# Altium footprint library pcb_library.PcbLib: 24 footprints (part 2 of 2)
Each footprint in its own frame and in the unit in brackets; x right, y up, seen from the top. Pads: shape width x height; smd on the part's side, far side on the other; paste and mask are expansions set on the pad; w line width, h text height; cw(c..) or ccw(c..) is an arc to the next point about the centre after c.
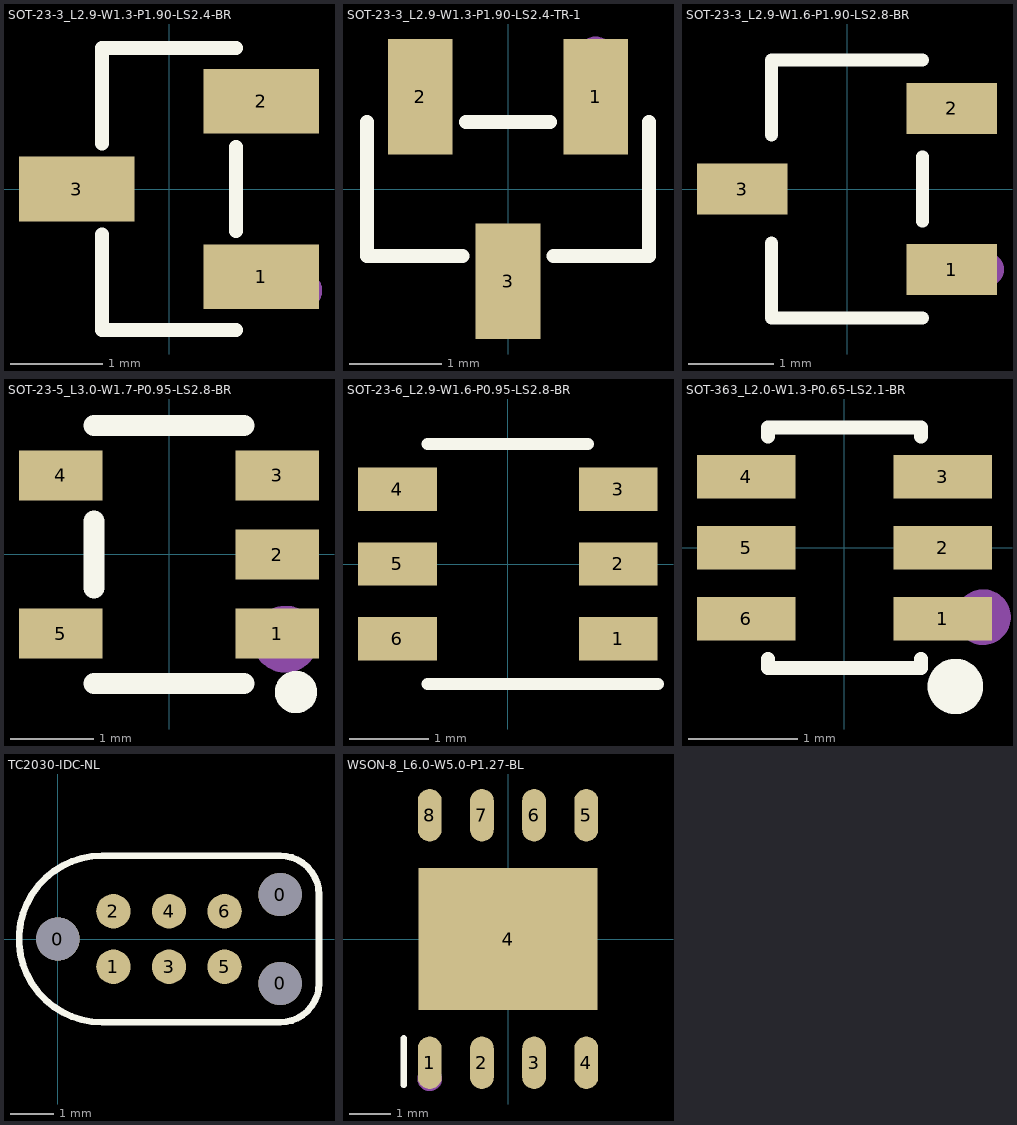
[diagram p1: the footprints below, top view; thin cyan lines are the x and y axes]

## SOT-23-3_L2.9-W1.3-P1.90-LS2.4-BR [mm]
pads (3):
  rect 1.25x0.7 smd: 1(1,-0.95) 2(1,0.95) 3(-1,0)
Top Overlay:
  lines w0.152: -0.726,-0.495 -0.726,-1.526 0.726,-1.526 ; -0.726,0.495 -0.726,1.526 0.726,1.526 ; 0.726,-0.455 0.726,0.455
Mechanical 15:
  circle w0.2: c1.46,-1.1 r0.1

## SOT-23-3_L2.9-W1.3-P1.90-LS2.4-TR-1 [mm]
pads (3):
  rect 0.7x1.25 smd: 1(0.95,1) 2(-0.95,1) 3(0,-1)
Top Overlay:
  lines w0.152: -1.526,0.726 -1.526,-0.726 -0.495,-0.726 ; -0.455,0.726 0.455,0.726 ; 0.495,-0.726 1.526,-0.726 1.526,0.726
Mechanical 15:
  circle w0.2: c0.95,1.45 r0.1

## SOT-23-3_L2.9-W1.6-P1.90-LS2.8-BR [mm]
pads (3):
  rect 1.07x0.6 smd: 1(1.235,-0.95) 2(1.235,0.95) 3(-1.235,0)
Top Overlay:
  lines w0.152: -0.889,-0.635 -0.889,-1.524 0.889,-1.524 ; -0.889,0.635 -0.889,1.524 0.889,1.524 ; 0.889,-0.381 0.889,0.381
Mechanical 15:
  circle w0.2: c1.651,-0.95 r0.1
3D body "SOT23.step": height 0.96, standoff 0.01, extent -1.227,-1.449 1.174,1.451

## SOT-23-5_L3.0-W1.7-P0.95-LS2.8-BR [mm]
pads (5):
  rect 1x0.6 smd: 1(1.3,-0.95) 2(1.3,0) 3(1.3,0.95) 4(-1.3,0.95) 5(-1.3,-0.95)
Top Overlay:
  circle w0.254: c1.524,-1.651 r0.127
  lines w0.254: -0.9,-1.55 0.9,-1.55 ; -0.9,-0.4 -0.9,0.4 ; -0.9,1.55 0.9,1.55
Mechanical 15:
  circle w0.4: c1.397,-1.016 r0.2

## SOT-23-6_L2.9-W1.6-P0.95-LS2.8-BR [mm]
pads (6):
  rect 1x0.55 smd: 1(1.4,-0.95) 2(1.4,0) 3(1.4,0.95) 4(-1.4,0.95) 5(-1.4,0) 6(-1.4,-0.95)
Top Overlay:
  lines w0.152: -1.016,-1.524 1.905,-1.524 ; -1.016,1.524 1.016,1.524
Mechanical 15:
  circle w0.2: c1.4,-0.95 r0.1
3D body "SOT23-6.stp": height 1.26, standoff 0, extent -1.4,-1.45 1.4,1.45

## SOT-363_L2.0-W1.3-P0.65-LS2.1-BR [mm]
pads (6):
  rect 0.9x0.4 smd: 1(0.9,-0.65) 2(0.9,0) 3(0.9,0.65) 4(-0.9,0.65) 5(-0.9,0) 6(-0.9,-0.65)
Top Overlay:
  circle w0.254: c1.016,-1.27 r0.127
  lines w0.127: -0.7,-1.018 -0.7,-1.1 0.7,-1.1 0.7,-1.018 ; -0.7,1.018 -0.7,1.1 0.7,1.1 0.7,1.018
Mechanical 15:
  circle w0.254: c1.27,-0.635 r0.127

## TC2030-IDC-NL [mil] "Tag Connect 6-Pin No Legs"
pads (9):
  round 38.9 hole 39 unplated: 0(0,0) 0(200,-40) 0(200,40)
  round 31 smd paste-100: 1(50,-25) 2(50,25) 3(100,-25) 4(100,25) 5(150,-25) 6(150,25)
Top Overlay:
  lines w6: 40,-75 cw(c40,0) 40,75 200,75 cw(c200,40) 235,40 235,-40 cw(c200,-40) 200,-75 40,-75

## WSON-8_L6.0-W5.0-P1.27-BL [mm]
pads (9):
  oval 0.581x1.276 smd: 1(-1.905,-3.013) 2(-0.635,-3.013) 3(0.635,-3.013) 4(1.905,-3.013) 5(1.905,3.013) 6(0.635,3.013) 7(-0.635,3.013) 8(-1.905,3.013)
  rect 4.35x3.45 smd: 4(0,0)
Top Overlay:
  lines w0.152: -2.54,-3.556 -2.54,-2.413
Mechanical 15:
  circle w0.3: c-1.905,-3.4 r0.15